# Altium footprint library PDM-CARD-PCBLib-V00.PcbLib: 8 footprints
Each footprint in its own frame and in the unit in brackets; x right, y up, seen from the top. Pads: shape width x height; smd on the part's side, far side on the other; paste and mask are expansions set on the pad; w line width, h text height; cw(c..) or ccw(c..) is an arc to the next point about the centre after c.
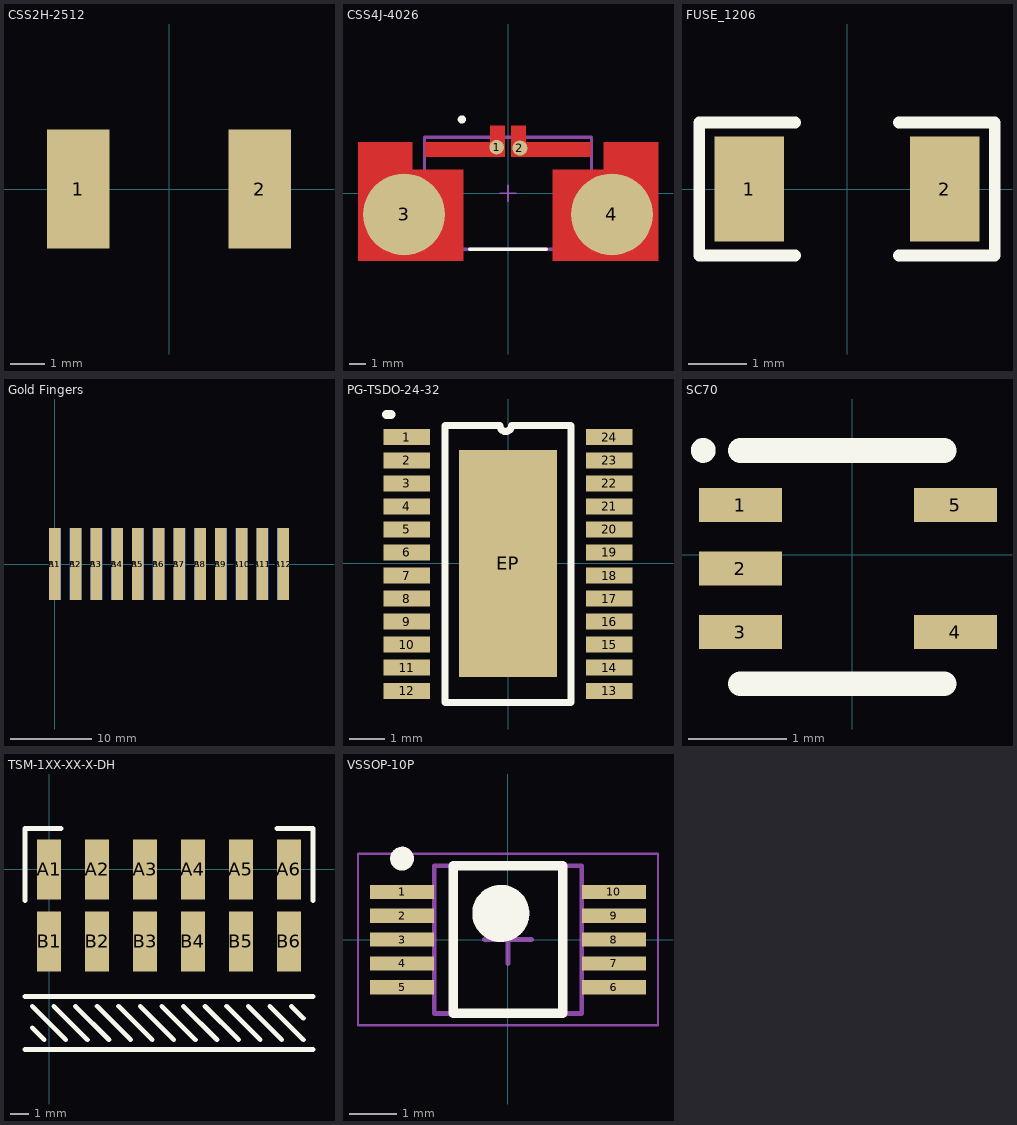
[diagram p0: the footprints below, top view; thin cyan lines are the x and y axes]

## CSS2H-2512 [mm]
pads (2):
  rect 1.8x3.4 smd: 1(-2.6,0) 2(2.6,0)
3D body "CSS2H-2512.stp": height 0.83, standoff 0, extent -3.175,-1.525 3.175,1.525

## CSS4J-4026 [mm]
pads (4):
  round 0.898 smd paste+0 mask+0: 1(-0.706,2.844)
  round 0.931 smd paste+0 mask+0: 2(0.734,2.784)
  round 5.044 smd paste+0 mask+0: 3(-6.406,-1.306) 4(6.406,-1.306)
Top Layer:
  region: -0.2,2.25 -5.1,2.25 -5.1,3.15 -1.1,3.15 -1.1,4.15 -0.2,4.15
  region: 0.2,2.25 5.1,2.25 5.1,3.15 1.1,3.15 1.1,4.15 0.2,4.15
  region: 9.25,-4.15 2.75,-4.15 2.75,1.45 5.9,1.45 5.9,3.15 9.25,3.15
  region: -9.25,-4.15 -2.75,-4.15 -2.75,1.45 -5.9,1.45 -5.9,3.15 -9.25,3.15
Top Overlay:
  circle w0.25: c-2.85,4.55 r0.125
  lines w0.2: -2.375,-3.45 2.375,-3.45
Mechanical 13:
  lines w0.2: -5.155,-3.45 -5.155,3.45 5.155,3.45 5.155,-3.45 -5.155,-3.45
Mechanical 16:
  lines w0.1: -0.5,0 0.5,0 ; 0,-0.5 0,0.5
3D body "Res_Bourns_CSS4J-4026R-L500F_eec.STEP": height 0.25, standoff 0, extent -9.35,-4.25 9.35,4.25

## FUSE_1206 [mil]
pads (2):
  rect 47x71 smd: 1(-66.08,0) 2(66.08,0)
Top Overlay:
  lines w8: -35,-45 -100,-45 -100,45 -35,45 ; 35,-45 100,-45 100,45 35,45
3D body "rsmd-1206_l3-2_w1-6_h0-6.stp": height 23.62, standoff 0, extent -62.99,-31.49 63,31.5

## Gold Fingers [mm]
pads (24):
  rect 1.4x8.8 smd: A1(0,0)
  rect 1.4x8.8 smd paste+0 mask+0.102: A2(2.54,0) A3(5.08,0) A4(7.62,0) A5(10.16,0) A6(12.7,0) A7(15.24,0) A8(17.78,0) A9(20.32,0) A10(22.86,0) A11(25.4,0) A12(27.94,0)
  rect 1.4x8.8 smd far side: B1(0,0)
  rect 1.4x8.8 smd far side paste+0 mask+0.102: B2(2.54,0) B3(5.08,0) B4(7.62,0) B5(10.16,0) B6(12.7,0) B7(15.24,0) B8(17.78,0) B9(20.32,0) B10(22.86,0) B11(25.4,0)
  rect 1.4x8.8 smd far side paste+0: B12(27.94,0)
Top Solder:
  rectangle: -2.413,-4.572 30.099,4.572

## PG-TSDO-24-32 [mm]
pads (25):
  rect 1.31x0.45 smd: 1(-2.855,3.556) 2(-2.855,2.906) 3(-2.855,2.256) 4(-2.855,1.606) 5(-2.855,0.956) 6(-2.855,0.306) 7(-2.855,-0.344) 8(-2.855,-0.994) 9(-2.855,-1.644) 10(-2.855,-2.294) 11(-2.855,-2.944) 12(-2.855,-3.594) 13(2.855,-3.594) 14(2.855,-2.944) 15(2.855,-2.294) 16(2.855,-1.644) 17(2.855,-0.994) 18(2.855,-0.344) 19(2.855,0.306) 20(2.855,0.956) 21(2.855,1.606) 22(2.855,2.256) 23(2.855,2.906) 24(2.855,3.556)
  rect 2.77x6.4 smd: EP(0,0)
Top Overlay:
  lines w0.2: -1.778,-3.919 1.778,-3.919 1.778,3.881 0.096,3.881 cw(c-0.066,3.881) -0.229,3.881 -1.778,3.881 -1.778,-3.919
  lines w0.254: -3.429,4.191 -3.302,4.191
3D body "Infineon-STP_PG-TSDSO-24-21-P-v01_00-EN.stp": height 1.01, standoff 0, extent -3,-4.318 3,4.332

## SC70 [mm] "SC70, 5-leads"
pads (5):
  rect 0.85x0.35 smd: 1(-1.143,0.508) 2(-1.143,-0.142) 3(-1.143,-0.792) 4(1.057,-0.792) 5(1.057,0.508)
Top Overlay:
  circle w0.127: c-1.524,1.067 r0.064
  lines w0.254: -1.143,-1.321 0.94,-1.321 ; -1.143,1.067 0.94,1.067
3D body "sc705_model.STEP": height 0.9, standoff -0.05, extent -1.142,-1.133 0.958,0.867

## TSM-1XX-XX-X-DH [mm]
pads (12):
  rect 1.27x3.18 smd: A1(0,0) A2(2.54,0) A3(5.08,0) A4(7.62,0) A5(10.16,0) A6(12.7,0) B1(0,-3.81) B2(2.54,-3.81) B3(5.08,-3.81) B4(7.62,-3.81) B5(10.16,-3.81) B6(12.7,-3.81)
Top Overlay:
  lines w0.254: -1.27,-9.525 13.97,-9.525 ; -1.27,-6.731 13.97,-6.731 ; -1.27,-1.651 -1.27,2.159 0.635,2.159 ; -0.889,-8.382 -0.254,-9.017 ; -0.889,-7.239 0.889,-9.017 ; 0.254,-7.239 2.032,-9.017 ; 1.397,-7.239 3.175,-9.017 ; 2.54,-7.239 4.318,-9.017 ; 3.683,-7.239 5.461,-9.017 ; 4.826,-7.239 6.604,-9.017 ; 5.969,-7.239 7.747,-9.017 ; 7.112,-7.239 8.89,-9.017 ; 8.255,-7.239 10.033,-9.017 ; 9.398,-7.239 11.176,-9.017 ; 10.541,-7.239 12.319,-9.017 ; 11.684,-7.239 13.462,-9.017 ; 12.065,2.159 13.97,2.159 13.97,-1.651 ; 12.827,-7.239 13.462,-7.874
3D body "TSM-106-01-T-DH.stp": height 6.07, standoff -0.02, extent -1.27,-15.24 13.97,1.016

## VSSOP-10P [mm] "VSSOP, 10-Leads, Body 3.00x3.00mm, Pitch 0.50mm, IPC Medium Density"
height 1.1
pads (10):
  rect 1.35x0.3 smd: 1(-2.225,1) 2(-2.225,0.5) 3(-2.225,0) 4(-2.225,-0.5) 5(-2.225,-1) 6(2.225,-1) 7(2.225,-0.5) 8(2.225,0) 9(2.225,0.5) 10(2.225,1)
Top Overlay:
  circle w0.25: c-2.225,1.7 r0.125
  circle w0.6: c-0.15,0.55 r0.3
  lines w0.2: -1.15,-1.55 -1.15,1.55 1.15,1.55 1.15,-1.55 -1.15,-1.55
Mechanical 13:
  lines w0.1: -1.55,-1.55 -1.55,1.55 1.55,1.55 1.55,-1.55 -1.55,-1.55
Mechanical 15:
  lines w0.05: -3.15,-1.8 -3.15,1.8 3.15,1.8 3.15,-1.8 -3.15,-1.8
  lines w0.1: -0.5,0 0.5,0 ; 0,-0.5 0,0.5
3D body "VSSOP-10P.step": height 1.1, standoff 0, extent -2.45,-1.55 2.45,1.55